# EAGLE library part MK2507SLF (library OSSC_HDMI_Audio)
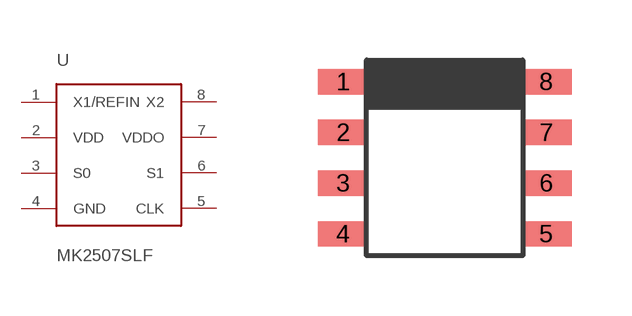
[diagram p3: symbol with the pads of SOIC8; footprint SOIC8]

Designator prefix -

## MK2507SLF  [SOIC8]
1  X1/REFIN
2  VDD
3  S0
4  GND
5  CLK
6  S1
7  VDDO
8  X2

## Footprint SOIC8 (pad centres in mm)
smd 1.27 x 0.635: 1 -2.54,1.905; 2 -2.54,0.635; 3 -2.54,-0.635; 4 -2.54,-1.905; 5 2.54,-1.905; 6 2.54,-0.635; 7 2.54,0.635; 8 2.54,1.905